# Altium footprint library TSSOP8_VISHAY_LITTLFT.PcbLib: 1 footprints
Each footprint in its own frame and in the unit in brackets; x right, y up, seen from the top. Pads: shape width x height; smd on the part's side, far side on the other; paste and mask are expansions set on the pad; w line width, h text height; cw(c..) or ccw(c..) is an arc to the next point about the centre after c.
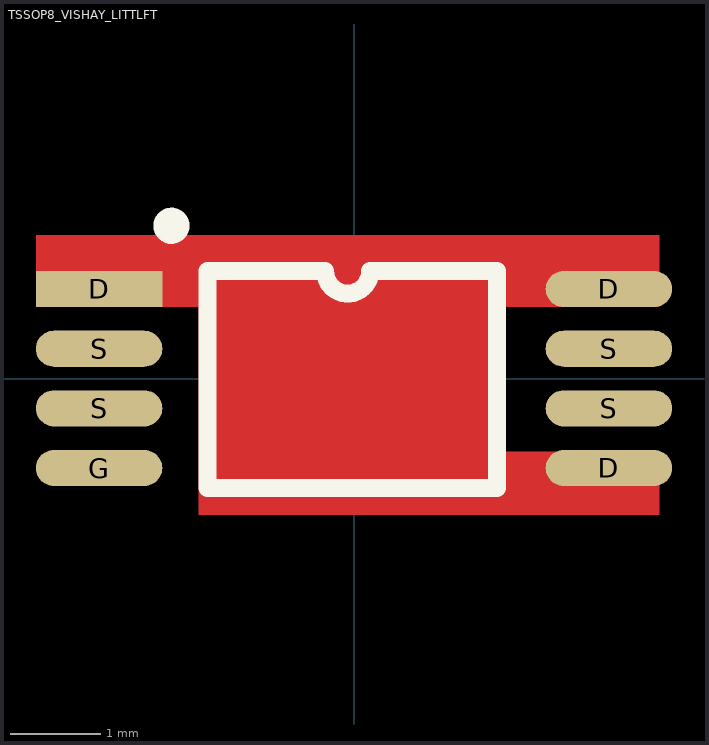
[diagram p0: the footprint, top view; thin cyan lines are the x and y axes]

## TSSOP8_VISHAY_LITTLFT [mm]
pads (8):
  rect 1.4x0.4 smd: D(-2.82,0.99)
  oval 1.4x0.4 smd: D(2.82,-0.99) D(2.82,0.99) G(-2.82,-0.99) S(-2.82,-0.33) S(-2.82,0.33) S(2.82,-0.33) S(2.82,0.33)
Top Layer:
  rectangle: -3.52,0.79 3.38,1.59
  rectangle: -1.72,-1.51 3.38,-0.81
  rectangle: -1.72,-0.81 1.68,0.89
Top Overlay:
  circle w0.2: c-2.02,1.69 r0.1
  lines w0.2: -1.62,-1.21 -1.62,1.19 -0.92,1.19 -0.62,1.19 -0.32,1.19 ccw(c-0.07,1.19) 0.18,1.19 0.48,1.19 0.88,1.19 1.58,1.19 1.58,-1.21 -1.62,-1.21
3D body: height 1.1, standoff 0, extent -3.2,-1.5 3.2,1.5